# Altium footprint library libreriaPcb.PcbLib: 683 footprints (part 20 of 44)
Each footprint in its own frame and in the unit in brackets; x right, y up, seen from the top. Pads: shape width x height; smd on the part's side, far side on the other; paste and mask are expansions set on the pad; w line width, h text height; cw(c..) or ccw(c..) is an arc to the next point about the centre after c.
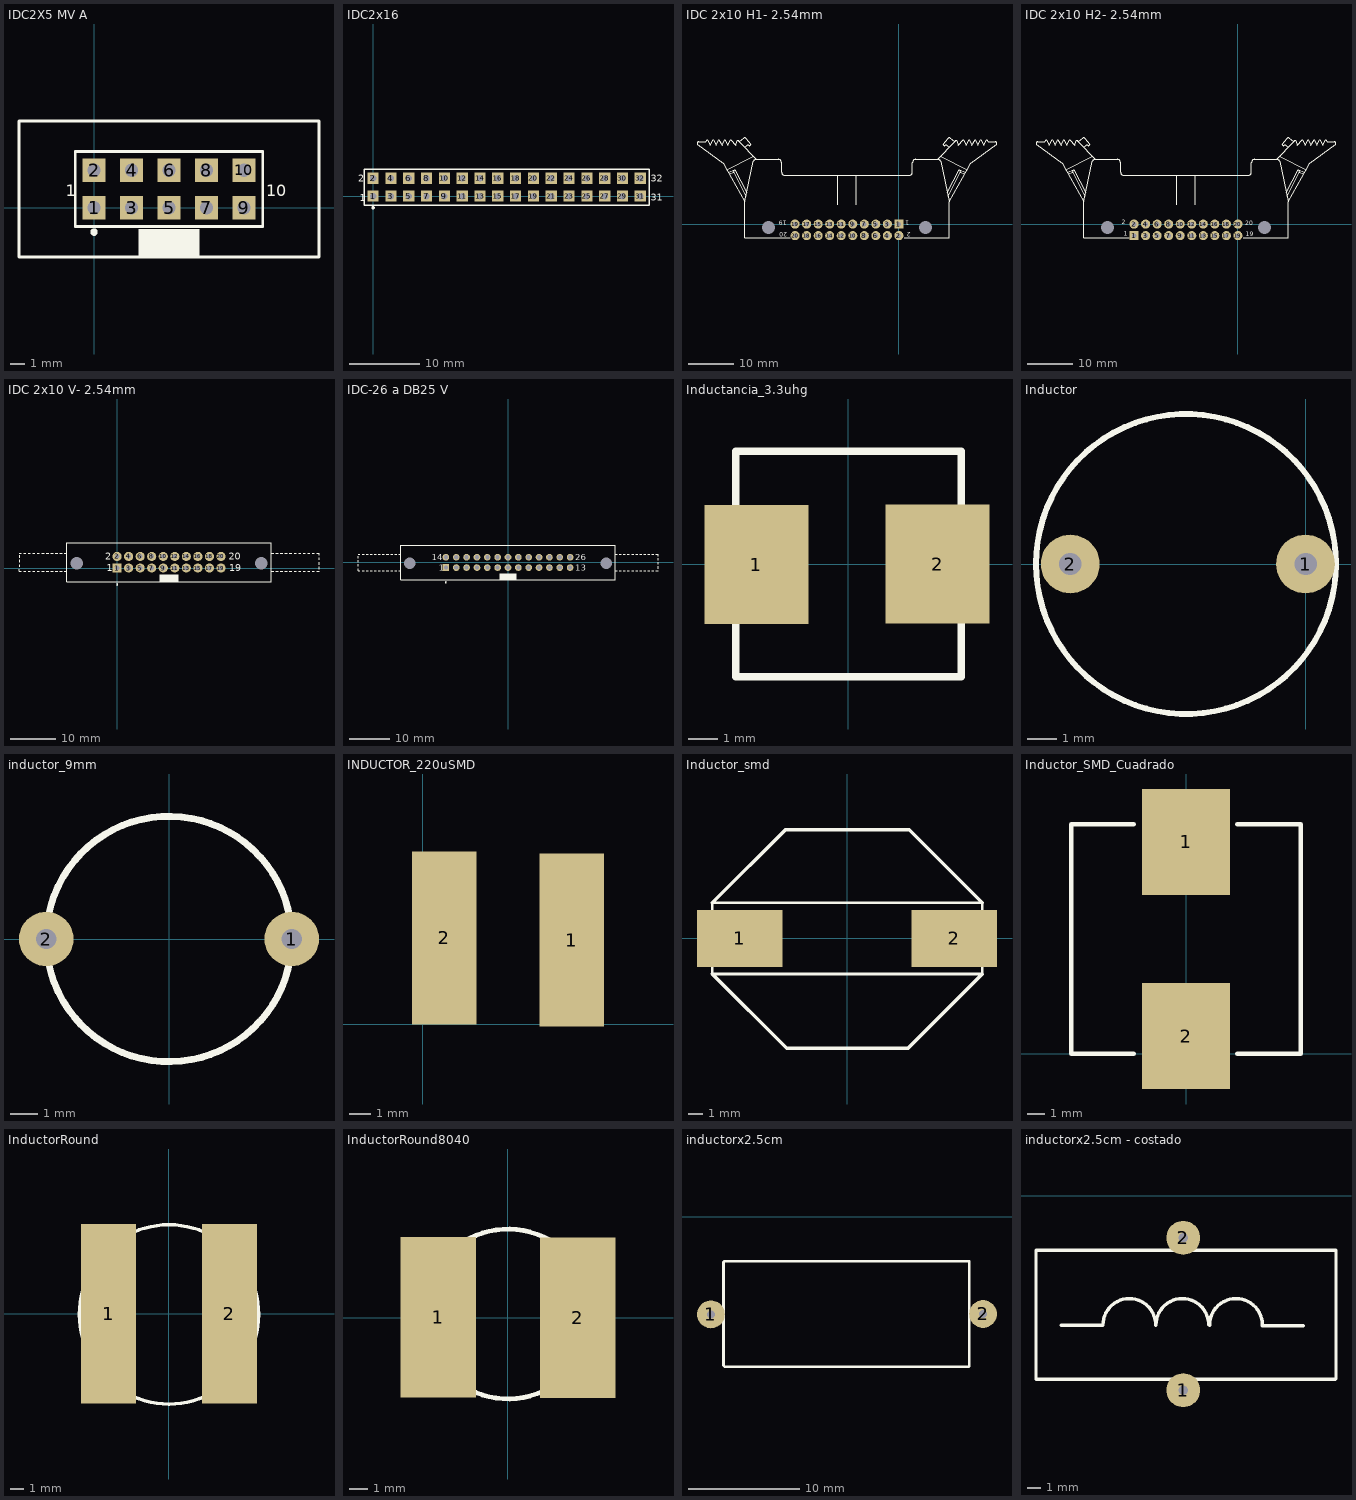
[diagram p19: the footprints below, top view; thin cyan lines are the x and y axes]

## IDC2X5 MV A [mil]
pads (10):
  rect 62x62 hole 35.43: 1(0,0) 2(0,100) 3(100,0) 4(100,100) 5(200,0) 6(200,100) 7(300,0) 8(300,100) 9(400,0) 10(400,100)
Top Overlay:
  circle w9.84: c0.08,-65 r4.92
  rectangle: 119.29,-131.1 280.71,-56.3
  lines w7.87: -200,-131.1 -200,231.1 600,231.1 600,-131.1 -200,-131.1 ; -50,-50 450,-50 450,150 -50,150 -50,-50
  text "1" at -75,30 h31.5
  text "10" at 460,30 h31.5

## IDC2x16 [mm]
pads (32):
  rect 1.6x1.6 hole 0.9: 1(0,0) 2(0,2.54) 3(2.54,0) 4(2.54,2.54) 5(5.08,0) 6(5.08,2.54) 7(7.62,0) 8(7.62,2.54) 9(10.16,0) 10(10.16,2.54) 11(12.7,0) 12(12.7,2.54) 13(15.24,0) 14(15.24,2.54) 15(17.78,0) 16(17.78,2.54) 17(20.32,0) 18(20.32,2.54) 19(22.86,0) 20(22.86,2.54) 21(25.4,0) 22(25.4,2.54) 23(27.94,0) 24(27.94,2.54) 25(30.48,0) 26(30.48,2.54) 27(33.02,0) 28(33.02,2.54) 29(35.56,0) 30(35.56,2.54) 31(38.1,0) 32(38.1,2.54)
Top Overlay:
  circle w0.25: c0.002,-1.651 r0.125
  lines w0.2: -1.27,-1.27 39.37,-1.27 39.37,3.81 -1.27,3.81 -1.27,-1.27
  text "31" at 39.624,-0.635 h1
  text "32" at 39.624,2.032 h1
  text "2" at -2.159,2.032 h1
  text "1" at -1.905,-0.762 h1

## IDC 2x10 H1- 2.54mm [mm] "Connector; IDC, Thru-Hole; 20 Position; Vertical; Pitch 2.54 mm; Body 45.00 x 8.5 x 23.30 mm (LxWxH), Locking levers"
pads (22):
  rect 2x2 hole 1: 1(0,0)
  round 2 hole 1: 2(0,-2.54) 3(-2.54,0) 4(-2.54,-2.54) 5(-5.08,0) 6(-5.08,-2.54) 7(-7.62,0) 8(-7.62,-2.54) 9(-10.16,0) 10(-10.16,-2.54) 11(-12.7,0) 12(-12.7,-2.54) 13(-15.24,0) 14(-15.24,-2.54) 15(-17.78,0) 16(-17.78,-2.54) 17(-20.32,0) 18(-20.32,-2.54) 19(-22.86,0) 20(-22.86,-2.54)
  round 2.5 hole 2.8 unplated: MH1(5.84,-0.74) MH2(-28.7,-0.74)
Top Overlay:
  lines w0.2: -37.599,11.452 -36.111,11.948 ; -37.371,11.107 -36.353,11.446 ; -33.968,16.928 -33.403,17.347 cw(c-33.267,16.957) -33,17.272 ccw(c-32.947,17.587) -32.628,17.607 -33.687,18.886 ccw(c-33.953,18.629) -34.102,18.968 -35.108,18.118 ; -33.683,6.172 -36.353,11.446 ; -33.536,6.925 -36.111,11.948 ; -32.05,14.934 -37.869,11.929 ; -31.437,14.263 -35.108,18.118 ; -31.43,14.26 -26.545,14.26 cw(c-26.545,13.56) -25.845,13.56 -25.845,11.46 ccw(c-25.145,11.46) -25.145,10.76 2.285,10.76 ccw(c2.285,11.46) 2.985,11.46 2.985,13.56 cw(c3.685,13.56) 3.685,14.26 8.57,14.26 ; -31.38,14.26 ccw(c-31.395,13.56) -32.04,13.832 -33.93,4.96 ; -23.97,-3.04 -33.93,-3.04 -33.93,4.96 ; -13.48,4.264 -13.48,10.76 ; -9.38,4.26 -9.38,10.76 ; 1.225,-3.04 11.07,-3.04 11.07,4.96 ; 8.52,14.26 cw(c8.535,13.56) 9.18,13.832 11.07,4.96 ; 8.577,14.263 12.248,18.118 ; 9.19,14.934 15.009,11.929 ; 10.676,6.925 13.251,11.948 ; 10.823,6.172 13.493,11.446 ; 11.108,16.928 10.543,17.347 ccw(c10.407,16.957) 10.14,17.272 cw(c10.087,17.587) 9.768,17.607 10.827,18.886 cw(c11.093,18.629) 11.242,18.968 12.248,18.118 ; 14.511,11.107 13.493,11.446 ; 14.739,11.452 13.251,11.948 ; -42.51,18.089 -42.254,18.56 ; -42.51,18.089 -42.254,18.56 ; -42.51,18.089 -44.121,18.089 ccw(c-44.121,17.75) -44.43,17.609 -38.675,13.384 -37.869,11.929 ; -42.254,18.56 -41.51,17.36 -40.91,18.56 -40.26,17.36 -39.64,18.56 -38.94,17.36 -38.39,18.56 -37.64,17.36 -37.01,18.56 -35.98,17.36 -35.573,18.324 cw(c-35.431,18.015) -35.108,18.118 ; -37.869,11.929 -33.93,4.96 ; -36.353,11.446 -36.111,11.948 ; 11.07,4.96 15.009,11.929 ; 12.248,18.118 cw(c12.571,18.015) 12.713,18.324 13.12,17.36 14.15,18.56 14.78,17.36 15.53,18.56 16.08,17.36 16.78,18.56 17.4,17.36 18.05,18.56 18.651,17.36 19.395,18.56 ; 13.251,11.948 13.493,11.446 ; 15.009,11.929 15.815,13.384 21.57,17.609 ccw(c21.261,17.75) 21.261,18.089 19.65,18.089 ; 19.395,18.56 19.65,18.089 ; 19.395,18.56 19.65,18.089
  text "2" at 2.642,-1.829 h1
  text "1" at 2.286,0.762 h1
  text "19" at -24.663,0.711 h1
  text "20" at -24.536,-1.829 h1

## IDC 2x10 H2- 2.54mm [mm]
pads (22):
  rect 2x2 hole 1: 1(-22.86,-2.54)
  round 2 hole 1: 2(-22.86,0) 3(-20.32,-2.54) 4(-20.32,0) 5(-17.78,-2.54) 6(-17.78,0) 7(-15.24,-2.54) 8(-15.24,0) 9(-12.7,-2.54) 10(-12.7,0) 11(-10.16,-2.54) 12(-10.16,0) 13(-7.62,-2.54) 14(-7.62,0) 15(-5.08,-2.54) 16(-5.08,0) 17(-2.54,-2.54) 18(-2.54,0) 19(0,-2.54) 20(0,0)
  round 2.5 hole 2.8 unplated: MH1(5.84,-0.74) MH2(-28.7,-0.74)
Top Overlay:
  lines w0.2: -37.599,11.452 -36.111,11.948 ; -37.371,11.107 -36.353,11.446 ; -33.968,16.928 -33.403,17.347 cw(c-33.267,16.957) -33,17.272 ccw(c-32.947,17.587) -32.628,17.607 -33.687,18.886 ccw(c-33.953,18.629) -34.102,18.968 -35.108,18.118 ; -33.683,6.172 -36.353,11.446 ; -33.536,6.925 -36.111,11.948 ; -32.05,14.934 -37.869,11.929 ; -31.437,14.263 -35.108,18.118 ; -31.43,14.26 -26.545,14.26 cw(c-26.545,13.56) -25.845,13.56 -25.845,11.46 ccw(c-25.145,11.46) -25.145,10.76 2.285,10.76 ccw(c2.285,11.46) 2.985,11.46 2.985,13.56 cw(c3.685,13.56) 3.685,14.26 8.57,14.26 ; -31.38,14.26 ccw(c-31.395,13.56) -32.04,13.832 -33.93,4.96 ; -23.97,-3.04 -33.93,-3.04 -33.93,4.96 ; -13.48,4.264 -13.48,10.76 ; -9.38,4.26 -9.38,10.76 ; 1.225,-3.04 11.07,-3.04 11.07,4.96 ; 8.52,14.26 cw(c8.535,13.56) 9.18,13.832 11.07,4.96 ; 8.577,14.263 12.248,18.118 ; 9.19,14.934 15.009,11.929 ; 10.676,6.925 13.251,11.948 ; 10.823,6.172 13.493,11.446 ; 11.108,16.928 10.543,17.347 ccw(c10.407,16.957) 10.14,17.272 cw(c10.087,17.587) 9.768,17.607 10.827,18.886 cw(c11.093,18.629) 11.242,18.968 12.248,18.118 ; 14.511,11.107 13.493,11.446 ; 14.739,11.452 13.251,11.948 ; -42.51,18.089 -44.121,18.089 ccw(c-44.121,17.75) -44.43,17.609 -38.675,13.384 -37.869,11.929 ; -42.51,18.089 -42.254,18.56 ; -42.51,18.089 -42.254,18.56 ; -42.254,18.56 -41.51,17.36 -40.91,18.56 -40.26,17.36 -39.64,18.56 -38.94,17.36 -38.39,18.56 -37.64,17.36 -37.01,18.56 -35.98,17.36 -35.573,18.324 cw(c-35.431,18.015) -35.108,18.118 ; -37.869,11.929 -33.93,4.96 ; -36.353,11.446 -36.111,11.948 ; 11.07,4.96 15.009,11.929 ; 12.248,18.118 cw(c12.571,18.015) 12.713,18.324 13.12,17.36 14.15,18.56 14.78,17.36 15.53,18.56 16.08,17.36 16.78,18.56 17.4,17.36 18.05,18.56 18.651,17.36 19.395,18.56 ; 13.251,11.948 13.493,11.446 ; 15.009,11.929 15.815,13.384 21.57,17.609 ccw(c21.261,17.75) 21.261,18.089 19.65,18.089 ; 19.395,18.56 19.65,18.089 ; 19.395,18.56 19.65,18.089
  text "20" at 1.651,-0.254 h1
  text "19" at 1.778,-2.667 h1
  text "1" at -25.146,-2.54 h1
  text "2" at -25.527,0 h1

## IDC 2x10 V- 2.54mm [mm] "Connector; IDC, Thru-Hole; 20 Position; Vertical; Pitch 2.54 mm; Body 45.00 x 8.5 x 23.30 mm (LxWxH), Locking levers"
pads (22):
  rect 2x2 hole 1: 1(0,0)
  round 2 hole 1: 2(0,2.54) 3(2.54,0) 4(2.54,2.54) 5(5.08,0) 6(5.08,2.54) 7(7.62,0) 8(7.62,2.54) 9(10.16,0) 10(10.16,2.54) 11(12.7,0) 12(12.7,2.54) 13(15.24,0) 14(15.24,2.54) 15(17.78,0) 16(17.78,2.54) 17(20.32,0) 18(20.32,2.54) 19(22.86,0) 20(22.86,2.54)
  round 2.5 hole 2.8 unplated: MH1(-8.89,1.02) MH2(31.75,1.02)
Top Overlay:
  circle w0.25: c0,-3.63 r0.125
  rectangle: 9.38,-2.981 13.48,-1.431
  lines w0.2: -21.58,0.77 -21.57,0.27 ; -21.58,1.77 -21.57,1.27 ; -21.58,2.77 -21.57,2.27 ; -21.57,-0.23 -21.57,-0.73 -21.07,-0.73 ; -21.57,3.27 -21.07,3.27 ; -20.57,-0.73 -20.07,-0.73 ; -20.57,3.27 -20.07,3.27 ; -19.57,-0.73 -19.07,-0.73 ; -19.57,3.27 -19.07,3.27 ; -18.57,-0.73 -18.07,-0.73 ; -18.57,3.27 -18.07,3.27 ; -17.57,-0.73 -17.07,-0.73 ; -17.57,3.27 -17.07,3.27 ; -16.57,-0.73 -16.07,-0.73 ; -16.57,3.27 -16.07,3.27 ; -15.57,-0.73 -15.07,-0.73 ; -15.57,3.27 -15.07,3.27 ; -14.57,-0.73 -14.07,-0.73 ; -14.57,3.27 -14.07,3.27 ; -13.57,-0.73 -13.07,-0.73 ; -13.57,3.27 -13.07,3.27 ; -12.57,-0.73 -12.07,-0.73 ; -12.57,3.27 -12.07,3.27 ; -11.57,-0.73 -11.07,-0.73 ; -11.57,3.27 -11.07,3.27 ; 33.93,-0.73 34.43,-0.73 ; 33.93,3.27 34.43,3.27 ; 34.93,-0.73 35.43,-0.73 ; 34.93,3.27 35.43,3.27 ; 35.93,-0.73 36.43,-0.73 ; 35.93,3.27 36.43,3.27 ; 36.93,-0.73 37.43,-0.73 ; 36.93,3.27 37.43,3.27 ; 37.93,-0.73 38.43,-0.73 ; 37.93,3.27 38.43,3.27 ; 38.93,-0.73 39.43,-0.73 ; 38.93,3.27 39.43,3.27 ; 39.93,-0.73 40.43,-0.73 ; 39.93,3.27 40.43,3.27 ; 40.93,-0.73 41.43,-0.73 ; 40.93,3.27 41.43,3.27 ; 41.93,-0.73 42.43,-0.73 ; 41.93,3.27 42.43,3.27 ; 42.93,-0.73 43.43,-0.73 ; 42.93,3.27 43.43,3.27 ; 43.93,-0.73 44.43,-0.73 ; 43.93,3.27 44.43,3.27 44.43,2.77 ; 44.43,-0.23 44.43,0.27 ; 44.43,0.77 44.43,1.27 ; 44.43,1.77 44.43,2.27 ; -11.07,-2.98 33.93,-2.98 33.93,5.52 -11.07,5.52 -11.07,-2.98
  text "20" at 24.536,1.829 h1.5
  text "19" at 24.663,-0.711 h1.5
  text "1" at -2.261,-0.711 h1.5
  text "2" at -2.642,1.829 h1.5

## IDC-26 a DB25 V [mm]
pads (28):
  rect 1.65x1.65 hole 1: 1(-15.24,-1.27)
  round 1.65 hole 1: 2(-12.7,-1.27) 3(-10.16,-1.27) 4(-7.62,-1.27) 5(-5.08,-1.27) 6(-2.54,-1.27) 7(0,-1.27) 8(2.54,-1.27) 9(5.08,-1.27) 10(7.62,-1.27) 11(10.16,-1.27) 12(12.7,-1.27) 13(15.24,-1.27) 14(-15.24,1.27) 15(-12.7,1.27) 16(-10.16,1.27) 17(-7.62,1.27) 18(-5.08,1.27) 19(-2.54,1.27) 20(0,1.27) 21(2.54,1.27) 22(5.08,1.27) 23(7.62,1.27) 24(10.16,1.27) 25(12.7,1.27) 26(15.24,1.27)
  round 2.5 hole 2.8 unplated: MH1(-24.13,-0.25) MH2(24.13,-0.25)
Top Overlay:
  circle w0.25: c-15.24,-4.9 r0.125
  rectangle: -2.05,-4.25 2.05,-2.7
  lines w0.2: -36.8,-1.5 -36.8,-2 -36.31,-2 ; -36.8,-1 -36.8,-0.5 ; -36.8,0 -36.8,0.5 ; -36.8,1 -36.8,1.5 ; -36.8,2 -36.31,2 ; -35.81,-2 -35.31,-2 ; -35.81,2 -35.31,2 ; -34.81,-2 -34.31,-2 ; -34.81,2 -34.31,2 ; -33.81,-2 -33.31,-2 ; -33.81,2 -33.31,2 ; -32.81,-2 -32.31,-2 ; -32.81,2 -32.31,2 ; -31.81,-2 -31.31,-2 ; -31.81,2 -31.31,2 ; -30.81,-2 -30.31,-2 ; -30.81,2 -30.31,2 ; -29.81,-2 -29.31,-2 ; -29.81,2 -29.31,2 ; -28.81,-2 -28.31,-2 ; -28.81,2 -28.31,2 ; -27.81,-2 -27.31,-2 ; -27.81,2 -27.31,2 ; -26.81,-2 -26.3,-2 ; -26.81,2 -26.3,2 ; 26.3,-2 26.8,-2 ; 26.3,2 26.8,2 ; 27.3,-2 27.8,-2 ; 27.3,2 27.8,2 ; 28.3,-2 28.8,-2 ; 28.3,2 28.8,2 ; 29.3,-2 29.8,-2 ; 29.3,2 29.8,2 ; 30.3,-2 30.8,-2 ; 30.3,2 30.8,2 ; 31.3,-2 31.8,-2 ; 31.3,2 31.8,2 ; 32.3,-2 32.8,-2 ; 32.3,2 32.8,2 ; 33.3,-2 33.8,-2 ; 33.3,2 33.8,2 ; 34.3,-2 34.8,-2 ; 34.3,2 34.8,2 ; 35.3,-2 35.8,-2 ; 35.3,2 35.8,2 ; 36.3,-2 36.8,-2 ; 36.3,2 36.8,2 36.8,1.5 ; 36.8,-1.5 36.8,-1 ; 36.8,-0.5 36.8,0 ; 36.8,0.5 36.8,1 ; -26.3,-4.25 26.3,-4.25 26.3,4.25 -26.3,4.25 -26.3,-4.25
  text "13" at 16.52,-2.02 h1.5
  text "26" at 16.52,0.52 h1.5
  text "1" at -17.02,-2.02 h1.5
  text "14" at -18.669,0.508 h1.5

## Inductancia_3.3uhg [mm]
pads (2):
  rect 3.5x4 smd: 1(-3.1,-0.02) 2(3,0)
Top Overlay:
  lines w0.254: -3.8,-3.8 3.8,-3.8 3.8,3.8 -3.8,3.8 -3.8,-3.8
3D body: height 3, standoff 0, extent -3.8,-3.8 3.8,3.8

## Inductor [mm]
pads (2):
  round 2 hole 0.762: 1(0,0) 2(-8,0)
Top Overlay:
  circle w0.2: c-4.065,0 r5.1

## inductor_9mm [mm]
pads (2):
  round 2 hole 0.75: 1(4.5,0) 2(-4.5,0)
Top Overlay:
  circle w0.254: c0,0 r4.5
3D body: height 11, standoff 0, extent -4.439,-4.516 4.526,4.466

## INDUCTOR_220uSMD [mm]
pads (2):
  rect 3x8 smd: 1(6.9,3.9) 2(1,4)
3D body: height 3.5, standoff 1, extent 0.528,0.507 7.5,7.493
3D body: height 4.5, standoff 3.5, extent 0,0 8,8
3D body: height 1, standoff 0, extent 0,0 8,8

## Inductor_smd [mm]
pads (2):
  rect 6x4 smd: 1(-7.5,0) 2(7.5,0)
Top Overlay:
  lines w0.2: -9.43,-0.07 -9.43,2.49 9.47,2.5 9.47,-2.5 -9.43,-2.49 -9.43,0
  lines w0.254: -9.43,-2.49 -4.22,-7.7 -2.22,-7.7 -0.33,-7.7 1.56,-7.7 4.27,-7.7 9.47,-2.5 ; -9.43,2.49 -4.31,7.61 -2.24,7.61 -0.35,7.61 1.54,7.61 4.36,7.61 9.47,2.5
3D body: height 8, standoff 0, extent -9.431,-7.701 9.471,7.611

## Inductor_SMD_Cuadrado [mm]
pads (2):
  rect 5x6 smd: 1(0,12) 2(0,1)
Top Overlay:
  lines w0.254: -2.972,0 -6.5,0 -6.5,13 -2.972,13 ; 2.896,0 6.5,0 6.5,13 2.896,13
3D body: height 3, standoff 0, extent -2.515,-0.813 2.489,0
3D body: height 3, standoff 0, extent -2.515,13.005 2.489,13.818
3D body: height 7, standoff 0, extent -6.5,0 6.5,13

## InductorRound [mm]
pads (2):
  rect 4x13 smd: 1(-4.375,0) 2(4.375,0)
Top Overlay:
  circle w0.254: c0,-0.055 r6.5
3D body: height 2, standoff 0, extent -6.48,-6.483 6.52,6.513
3D body: height 5, standoff 2, extent -5.025,-4.973 4.975,5.024
3D body: height 7, standoff 5, extent -6.5,-6.553 6.5,6.443

## InductorRound8040 [mm]
pads (2):
  rect 4x8.5 smd: 1(-3.7,0.013) 2(3.7,-0.012)
Top Overlay:
  circle w0.254: c0,0.188 r4.5
3D body: height 7, standoff 5, extent -4.525,-4.499 4.475,4.499
3D body: height 5, standoff 2, extent -2.95,-3.074 3.05,2.924
3D body: height 2, standoff 0, extent -4.525,-4.499 4.475,4.499

## inductorx2.5cm [mm]
pads (2):
  round 2.5 hole 0.711: 1(3.303,-8.777) 2(27.741,-8.747)
Top Overlay:
  lines w0.254: 3.303,-8.777 4.453,-8.747 ; 26.5,-4.033 26.5,-4.003 ; 26.71,-8.747 27.741,-8.747 ; 26.5,-4.003 26.5,-13.43 26.44,-13.49 14.061,-13.49 4.563,-13.49 4.423,-13.35 4.423,-12.99 4.423,-4.093 4.513,-4.003 15.011,-4.003 26.5,-4.003
3D body "BOB.step": height 20.83, standoff 0.18, extent 5.261,-13.81 25.867,-3.81

## inductorx2.5cm - costado [mm]
pads (2):
  round 2.5 hole 0.711: 1(15.26,-14.31) 2(15.26,-3.1)
Top Overlay:
  lines w0.254: 4.563,-13.49 4.423,-13.49 4.423,-12.99 4.423,-4.003 26.5,-4.003 ; 4.6,-13.49 26.44,-13.49 26.5,-13.43 26.5,-4.003 ; 6.29,-9.53 9.35,-9.53 cw(c11.29,-9.51) 13.23,-9.51 ; 13.25,-9.53 cw(c15.19,-9.51) 17.13,-9.51 ; 17.2,-9.53 cw(c19.14,-9.51) 21.08,-9.51 ; 21.08,-9.56 24.09,-9.56 ; 26.5,-4.033 26.5,-4.003
3D body "BOB.step": height 20.83, standoff 0.18, extent 5.261,-13.81 25.867,-3.81